# EAGLE library part FPC-54WAY (library pimoroni-fpc)
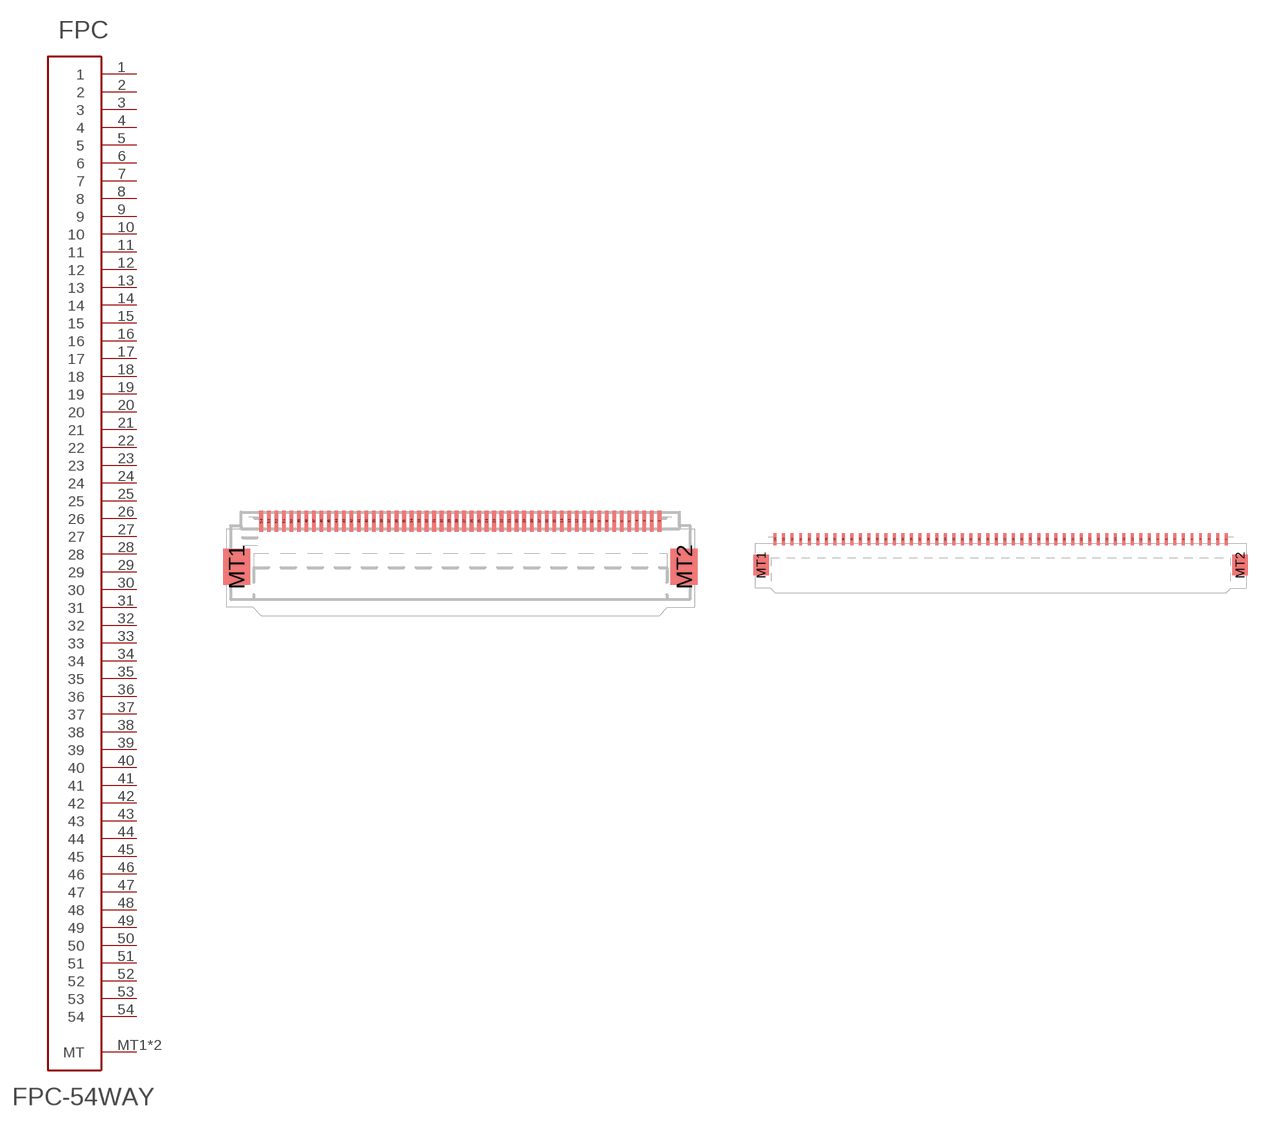
[diagram p49: symbol with the pads of FPC-0.5MM-54WAY; footprints FPC-0.5MM-54WAY, FPC-1.0MM-54WAY]

Designator prefix FPC

## FPC-54WAY0.5  [FPC-0.5MM-54WAY]
1  1
2  2
3  3
4  4
5  5
6  6
7  7
8  8
9  9
10  10
11  11
12  12
13  13
14  14
15  15
16  16
17  17
18  18
19  19
20  20
21  21
22  22
23  23
24  24
25  25
26  26
27  27
28  28
29  29
30  30
31  31
32  32
33  33
34  34
35  35
36  36
37  37
38  38
39  39
40  40
41  41
42  42
43  43
44  44
45  45
46  46
47  47
48  48
49  49
50  50
51  51
52  52
53  53
54  54
MT1  MT
MT2  MT

## FPC-54WAY1.0  [FPC-1.0MM-54WAY]
Pads as for FPC-0.5MM-54WAY

## Footprint FPC-0.5MM-54WAY (pad centres in mm)
smd 0.25 x 1.4: 1 13.25,0.7; 2 12.75,0.7; 3 12.25,0.7; 4 11.75,0.7; 5 11.25,0.7; 6 10.75,0.7; 7 10.25,0.7; 8 9.75,0.7; 9 9.25,0.7; 10 8.75,0.7; 11 8.25,0.7; 12 7.75,0.7; 13 7.25,0.7; 14 6.75,0.7; 15 6.25,0.7; 16 5.75,0.7; 17 5.25,0.7; 18 4.75,0.7; 19 4.25,0.7; 20 3.75,0.7; 21 3.25,0.7; 22 2.75,0.7; 23 2.25,0.7; 24 1.75,0.7; 25 1.25,0.7; 26 0.75,0.7; 27 0.25,0.7; 28 -0.25,0.7; 29 -0.75,0.7; 30 -1.25,0.7; 31 -1.75,0.7; 32 -2.25,0.7; 33 -2.75,0.7; 34 -3.25,0.7; 35 -3.75,0.7; 36 -4.25,0.7; 37 -4.75,0.7; 38 -5.25,0.7; 39 -5.75,0.7; 40 -6.25,0.7; 41 -6.75,0.7; 42 -7.25,0.7; 43 -7.75,0.7; 44 -8.25,0.7; 45 -8.75,0.7; 46 -9.25,0.7; 47 -9.75,0.7; 48 -10.25,0.7; 49 -10.75,0.7; 50 -11.25,0.7; 51 -11.75,0.7; 52 -12.25,0.7; 53 -12.75,0.7; 54 -13.25,0.7
smd 1.8 x 2.4: MT1 -14.9,-2.35; MT2 14.9,-2.35

## Footprint FPC-1.0MM-54WAY (pad centres in mm)
smd 0.35 x 1.4: 1 26.5,0.7; 2 25.5,0.7; 3 24.5,0.7; 4 23.5,0.7; 5 22.5,0.7; 6 21.5,0.7; 7 20.5,0.7; 8 19.5,0.7; 9 18.5,0.7; 10 17.5,0.7; 11 16.5,0.7; 12 15.5,0.7; 13 14.5,0.7; 14 13.5,0.7; 15 12.5,0.7; 16 11.5,0.7; 17 10.5,0.7; 18 9.5,0.7; 19 8.5,0.7; 20 7.5,0.7; 21 6.5,0.7; 22 5.5,0.7; 23 4.5,0.7; 24 3.5,0.7; 25 2.5,0.7; 26 1.5,0.7; 27 0.5,0.7; 28 -0.5,0.7; 29 -1.5,0.7; 30 -2.5,0.7; 31 -3.5,0.7; 32 -4.5,0.7; 33 -5.5,0.7; 34 -6.5,0.7; 35 -7.5,0.7; 36 -8.5,0.7; 37 -9.5,0.7; 38 -10.5,0.7; 39 -11.5,0.7; 40 -12.5,0.7; 41 -13.5,0.7; 42 -14.5,0.7; 43 -15.5,0.7; 44 -16.5,0.7; 45 -17.5,0.7; 46 -18.5,0.7; 47 -19.5,0.7; 48 -20.5,0.7; 49 -21.5,0.7; 50 -22.5,0.7; 51 -23.5,0.7; 52 -24.5,0.7; 53 -25.5,0.7; 54 -26.5,0.7
smd 1.8 x 2.4: MT1 -28.15,-2.35; MT2 28.15,-2.35